# EAGLE library part CA5260MZ (library Intersil_By_element14_Batch_1)
3MHz, BiMOS Microprocessor Operational Amplifiers with MOSFET Input/CMOS Output
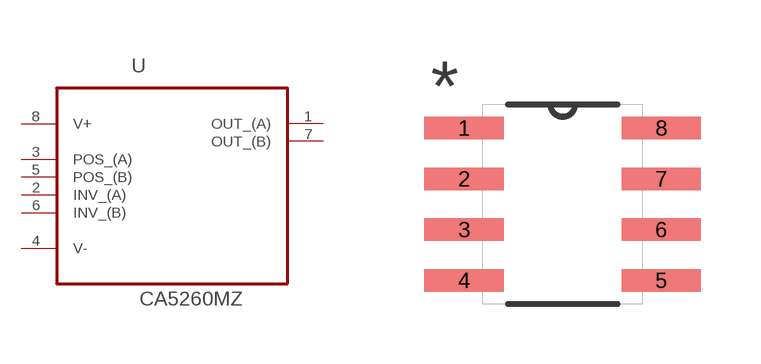
[diagram p19: symbol with the pads of SOIC127P600X175-8N; footprint SOIC127P600X175-8N]

Designator prefix U

## CA5260MZ (MPN: CA5260MZ; OC_FARNELL: 1562075; OC_NEWARK: 80K5724; PACKAGE: SOIC-8; SUPPLIER: INTERSIL)  [SOIC127P600X175-8N]
1  OUT_(A)  out
2  INV_(A)  in
3  POS_(A)  in
4  V-  pwr
5  POS_(B)  in
6  INV_(B)  in
7  OUT_(B)  out
8  V+  pwr

## Footprint SOIC127P600X175-8N (pad centres in mm)
smd 1.981 x 0.559: 1 -2.464,1.905; 2 -2.464,0.635; 3 -2.464,-0.635; 4 -2.464,-1.905; 5 2.464,-1.905; 6 2.464,-0.635; 7 2.464,0.635; 8 2.464,1.905